# Altium integrated library WE-MLS Multiline EMI Suppression Ferrite.IntLib: 6 symbols
Pins are listed as number, name and electrical type; pins without a type are passive.

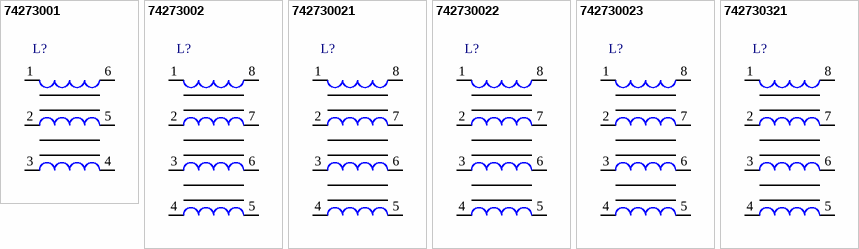
[diagram p0: symbols 74273001 to 742730321]

## 74273001
designator L?
Multiline EMI Suppression Ferrite WE-MLS, Z = 264 Ohm; PartNumber: 74273001; Impedance: 264 Ohm; DatasheetVersion: ver 7, Apr-2007; PackageReference: WE-MLS-74273001; PackageDescription: Inductor, 6-Leads, Body 7.62 x 5.08 mm; ComponentLink1Description: Manufacturer URL; ComponentLink1URL: http://www.we-online.com; ComponentLink2Description: Datasheet; ComponentLink2URL: http://www.we-online.de/katalog/media/pdf/74273001.pdf
footprint WE-MLS-74273001 (Inductor, 6-Leads, Body 7.62x5.08x10 mm)
pins: 1, 2, 3, 4, 5, 6

## 74273002
designator L?
Multiline EMI Suppression Ferrite WE-MLS, Z = 249 Ohm; PartNumber: 74273002; Impedance: 249 Ohm; DatasheetVersion: ver 7, Apr-2007; PackageReference: WE-MLS-74273002; PackageDescription: Inductor, 8-Leads, Body 10.88 x 5.49 mm; ComponentLink1Description: Manufacturer URL; ComponentLink1URL: http://www.we-online.com; ComponentLink2Description: Datasheet; ComponentLink2URL: http://www.we-online.de/katalog/media/pdf/74273002.pdf
footprint WE-MLS-74273002 (Inductor, 8-Leads, Body 10.88x5.49x10 mm)
pins: 1, 2, 3, 4, 5, 6, 7, 8

## 742730021
designator L?
Multiline EMI Suppression Ferrite WE-MLS, Z = 170 Ohm; PartNumber: 742730021; Impedance: 170 Ohm; DatasheetVersion: ver 7, Apr-2007; PackageReference: WE-MLS-742730021; PackageDescription: Inductor, 8-Leads, Body 11.2 x 11.2 mm; ComponentLink1Description: Manufacturer URL; ComponentLink1URL: http://www.we-online.com; ComponentLink2Description: Datasheet; ComponentLink2URL: http://www.we-online.de/katalog/media/pdf/742730021.pdf
footprint WE-MLS-742730021 (Inductor, 8-Leads, Body 11.2x11.2x5.3 mm)
pins: 1, 2, 3, 4, 5, 6, 7, 8

## 742730022
designator L?
Multiline EMI Suppression Ferrite WE-MLS, Z = 248 Ohm; PartNumber: 742730022; Impedance: 248 Ohm; DatasheetVersion: ver 7, Apr-2007; PackageReference: WE-MLS-742730022; PackageDescription: Inductor, 8-Leads, Body 11.2 x 11.2 mm; ComponentLink1Description: Manufacturer URL; ComponentLink1URL: http://www.we-online.com; ComponentLink2Description: Datasheet; ComponentLink2URL: http://www.we-online.de/katalog/media/pdf/742730022.pdf
footprint WE-MLS-742730022 (Inductor, 8-Leads, Body 11.2x11.2x8 mm)
pins: 1, 2, 3, 4, 5, 6, 7, 8

## 742730023
designator L?
Multiline EMI Suppression Ferrite WE-MLS, Z = 334 Ohm; PartNumber: 742730023; Impedance: 334 Ohm; DatasheetVersion: ver 7, Apr-2007; PackageReference: WE-MLS-742730023; PackageDescription: Inductor, 8-Leads, Body 11.2 x 11.2 mm; ComponentLink1Description: Manufacturer URL; ComponentLink1URL: http://www.we-online.com; ComponentLink2Description: Datasheet; ComponentLink2URL: http://www.we-online.de/katalog/media/pdf/742730023.pdf
footprint WE-MLS-742730023 (Inductor, 8-Leads, Body 11.2x11.2x11 mm)
pins: 1, 2, 3, 4, 5, 6, 7, 8

## 742730321
designator L?
Multiline EMI Suppression Ferrite WE-MLS, Z = 115 Ohm; PartNumber: 742730321; Impedance: 115 Ohm; DatasheetVersion: ver 1, Mar-2009; PackageReference: WE-MLS-742730023; PackageDescription: Inductor, 8-Leads, Body 11.2 x 11.2 mm; ComponentLink1Description: Manufacturer URL; ComponentLink1URL: http://www.we-online.com; ComponentLink2Description: Datasheet; ComponentLink2URL: http://www.we-online.de/katalog/media/pdf/742730321.pdf
footprint WE-MLS-742730023 (Inductor, 8-Leads, Body 11.2x11.2x11 mm)
pins: 1, 2, 3, 4, 5, 6, 7, 8